# Altium schematic symbol library 74HC1G08GV_125.SchLib: 1 symbol
Pins are listed as number, name and electrical type; pins without a type are passive.

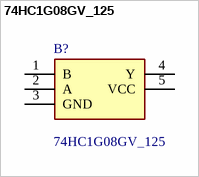
[diagram p0: symbol 74HC1G08GV_125]

## 74HC1G08GV_125
designator B?
74HC(T)1G08 - 2-input AND gate@en-us; Manufacturer_Name: Nexperia; Manufacturer_Part_Number: 74HC1G08GV,125; Geometry.Height: 1.1mm; Mouser Part Number: 771-74HC1G08GV; Mouser Price/Stock: https://www.mouser.co.uk/ProductDetail/Nexperia/74HC1G08GV125?qs=P62ublwmbi9shys2yLaZlQ%3D%3D; Arrow Part Number: 74HC1G08GV,125; Arrow Price/Stock: https://www.arrow.com/en/products/74hc1g08gv125/nexperia?region=nac; Datasheet Link: https://assets.nexperia.com/documents/data-sheet/74HC_HCT1G08.pdf
footprint SOT95P275X110-5N
pins: 1 B, 2 A, 3 GND, 4 Y, 5 VCC